# Altium schematic symbol library ESD Protection.SchLib: 1 symbol
Pins are listed as number, name and electrical type; pins without a type are passive.

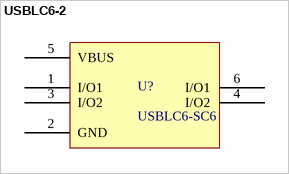
[diagram p0: symbol USBLC6-2]

## USBLC6-2
designator U?, comment USBLC6-SC6
TVS DIODE 5.25V 17V SOT23-6; Manufacturer: STMicroelectronics; Description: Very low capacitance ESD protection; Part Number: USBLC6-SC6; Supplier 1: Newark; Supplier 2: Digi-Key; Supplier Part Number 1: 26M4748; Supplier Part Number 2: 497-11883-1-ND; Device Package: SOT-23-6; Operating Temperature: -40°C ~ 125°C (TJ)
footprint ST SOT-23-6 (SOT23, 6-Leads, Body 2.93x2.80mm, Pitch 0.95mm, IPC Medium Density)
pins: 1 I/O1, 2 GND, 3 I/O2, 4 I/O2, 5 VBUS, 6 I/O1